# EAGLE library part NC7WZ07 (library IC)
TinyLogic UHS Dual Buffer (Open Drain Outputs)
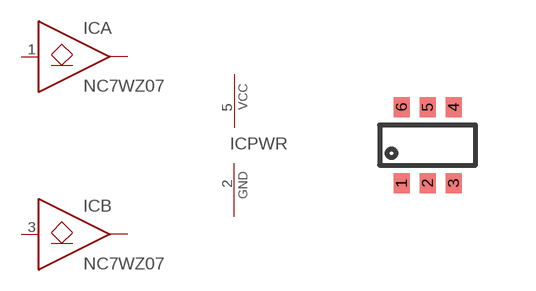
[diagram p181: symbol with the pads of SC70-6L; footprint SC70-6L]

Designator prefix IC; gates A=BUF-OC B=BUF-OC PWR=PWR-VCC-GND

## NC7WZ07P6X  [SC70-6L]
1  A:I  in
2  PWR:GND  pwr
3  B:I  in
4  B:OUT  out
5  PWR:VCC  pwr
6  A:OUT  out

## Footprint SC70-6L (pad centres in mm)
6-Lead SC70, EIAJ SC88, 1.25mm Wide
smd 0.4 x 0.5: 1 -0.65,-0.95; 2 0,-0.95; 3 0.65,-0.95; 4 0.65,0.95; 5 0,0.953; 6 -0.65,0.95